# Altium schematic symbol library S_Diode.SchLib: 1 symbol
Pins are listed as number, name and electrical type; pins without a type are passive.

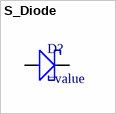
[diagram p0: symbol S_Diode]

## S_Diode
designator D?
pins: A, C 2